# EAGLE library part DDC112 (library texas-DAS)
Dual Current Input 20-Bit ANALOG-TO-DIGITAL CONVERTER Description: The DDC112 is a dual input, wide dynamic range, charge- digitizing analog-to-digital (A/D) converter with 20-bit resolu- tion. Low-level current output devices, such as photosensors, can be directly connected to its inputs. Charge integration is continuous as each input uses two integrators; while one is being digitized, the other is integrating. For each of its two inputs, the DDC112 combines current-to- voltage conversion, continuous integration, programmable full-scale range, A/D conversion, and digital filtering to achieve a precision, wide dynamic range digital result. In addition to the internal programmable full-scale ranges, external integrat- ing capacitors allow an additional user-settable full-scale range of up to 1000pC. Features: MONOLITHIC CHARGE MEASUREMENT A/D CONVERTER DIGITAL FILTER NOISE REDUCTION: 3.2ppm, rms INTEGRAL LINEARITY: ±0.005% Reading ±0.5ppm FSR HIGH PRECISION, TRUE INTEGRATING FUNC TION PROGRAMMABLE FULL-SCALE SINGLE SUPPLY CASCADABLE OUTPUT Datasheet: http://www.ti.com/lit/ds/symlink/ddc112.pdf Additional information: For practical daisychaining and layout considerations, consider the DDC112 evaluation board documentation: http://www.ti.com/lit/an/sbaa029/sbaa029.pdf
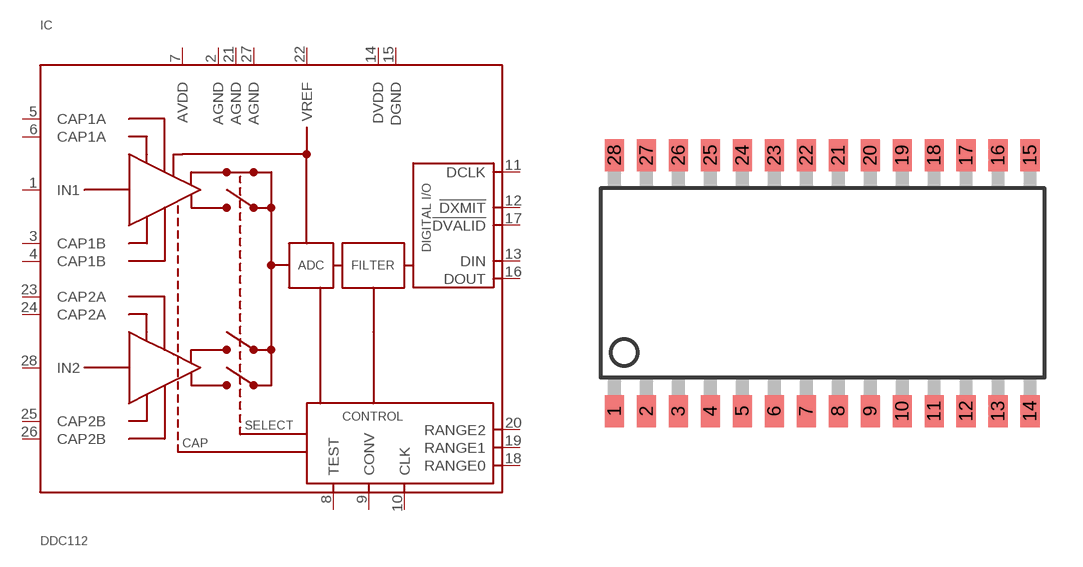
[diagram p1: symbol with the pads of SO-28W; footprint SO-28W]

Designator prefix IC

## DDC112  [SO-28W]
1  IN1  in
2  AGND  pwr
3  CAP1B  in
4  CAP1B  in
5  CAP1A  in
6  CAP1A  in
7  AVDD  pwr
8  TEST  pwr
9  CONV  in
10  CLK  in
11  DCLK  in
12  !DXMIT  in
13  DIN  in
14  DVDD  pwr
15  DGND  pwr
16  DOUT  out
17  !DVALID  out
18  RANGE0  out
19  RANGE1  out
20  RANGE2  out
21  AGND  pwr
22  VREF  pas
23  CAP2A  in
24  CAP2A  in
25  CAP2B  in
26  CAP2B  in
27  AGND  pwr
28  IN2  in

## Footprint SO-28W (pad centres in mm)
Small Outline Wide Plastic Gull Wing 300-mil body, package type SO
smd 0.762 x 1.27: 1 -8.255,-5.08; 2 -6.985,-5.08; 3 -5.715,-5.08; 4 -4.445,-5.08; 5 -3.175,-5.08; 6 -1.905,-5.08; 7 -0.635,-5.08; 8 0.635,-5.08; 9 1.905,-5.08; 10 3.175,-5.08; 11 4.445,-5.08; 12 5.715,-5.08; 13 6.985,-5.08; 14 8.255,-5.08; 15 8.255,5.08; 16 6.985,5.08; 17 5.715,5.08; 18 4.445,5.08; 19 3.175,5.08; 20 1.905,5.08; 21 0.635,5.08; 22 -0.635,5.08; 23 -1.905,5.08; 24 -3.175,5.08; 25 -4.445,5.08; 26 -5.715,5.08; 27 -6.985,5.08; 28 -8.255,5.08